# Altium footprint library PCB_library.PcbLib: 36 footprints (part 2 of 3)
Each footprint in its own frame and in the unit in brackets; x right, y up, seen from the top. Pads: shape width x height; smd on the part's side, far side on the other; paste and mask are expansions set on the pad; w line width, h text height; cw(c..) or ccw(c..) is an arc to the next point about the centre after c.
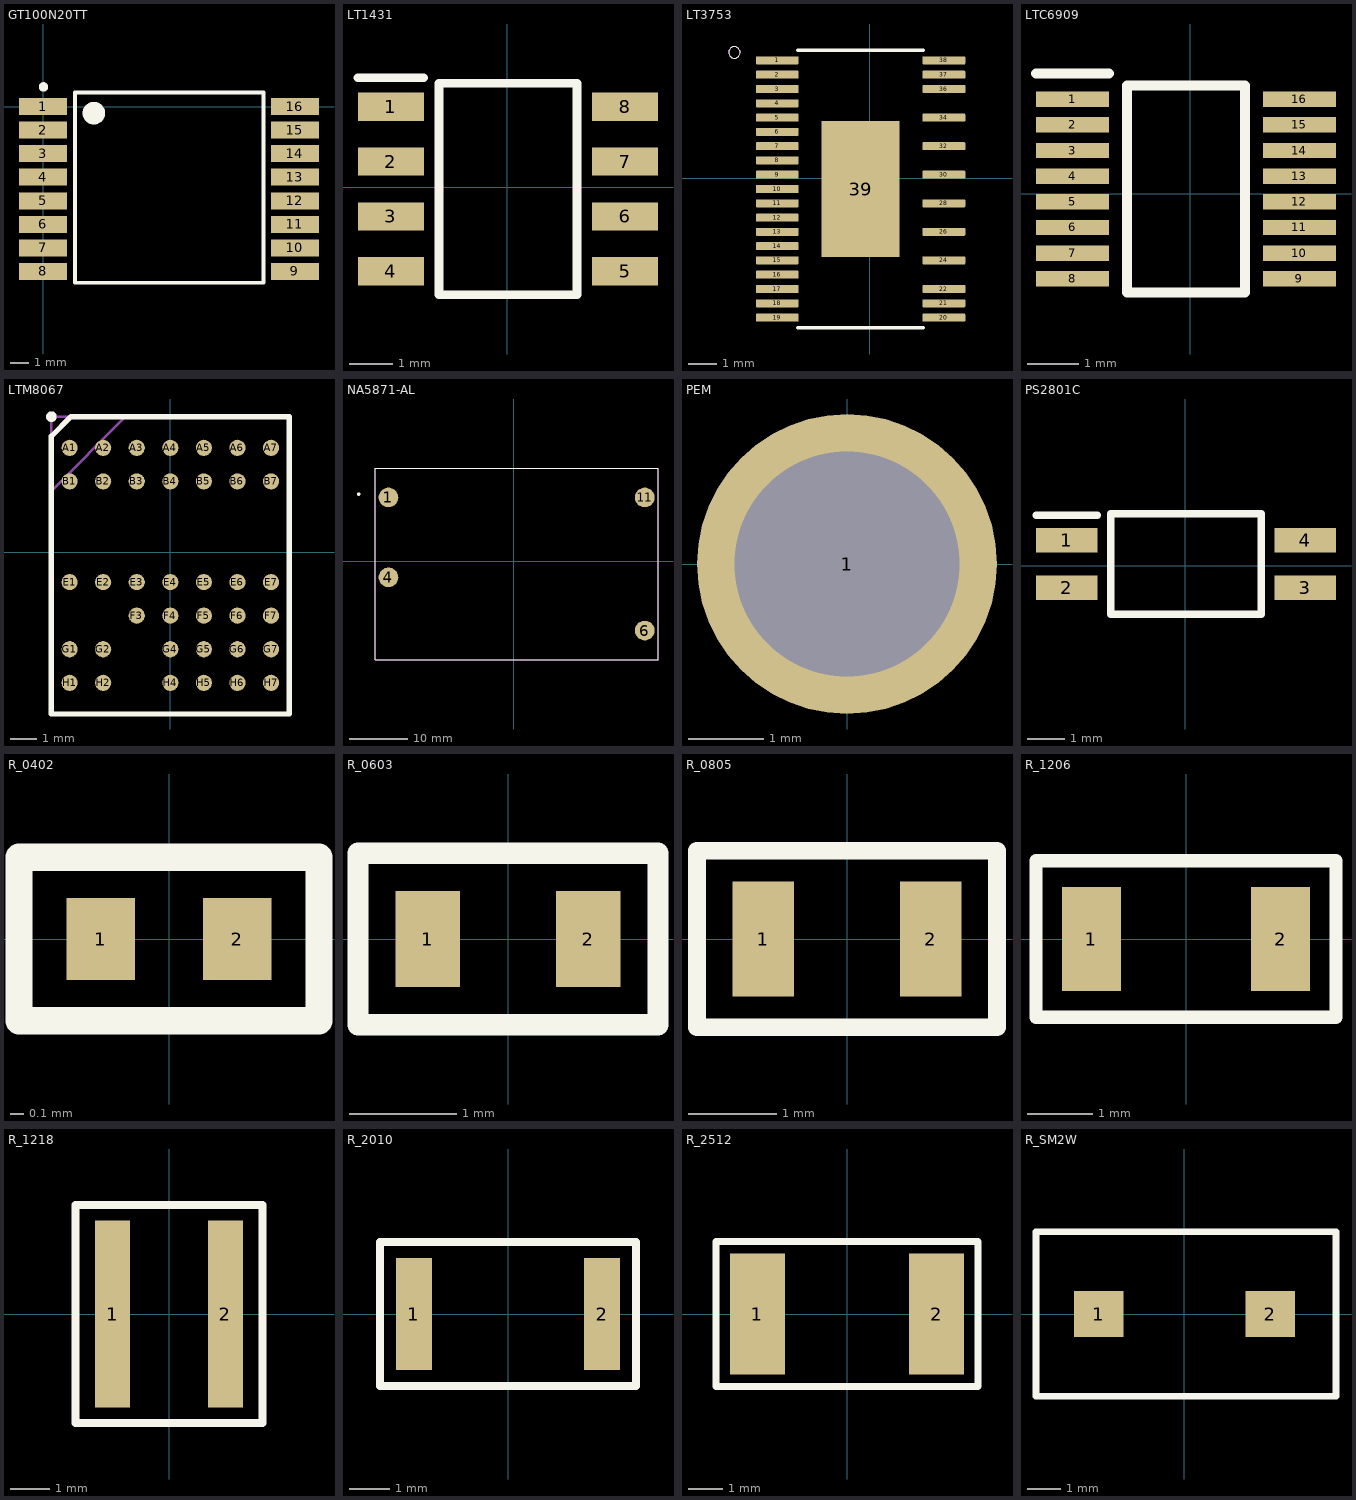
[diagram p1: the footprints below, top view; thin cyan lines are the x and y axes]

## GT100N20TT [mm]
pads (16):
  rect 2.55x0.9 smd: 1(0,0) 2(0,-1.25) 3(0,-2.5) 4(0,-3.75) 5(0,-5) 6(0,-6.25) 7(0,-7.5) 8(0,-8.75) 9(13.375,-8.75) 10(13.375,-7.5) 11(13.375,-6.25) 12(13.375,-5) 13(13.375,-3.75) 14(13.375,-2.5) 15(13.375,-1.25) 16(13.375,0)
Top Overlay:
  circle w0.6: c2.7,-0.35 r0.3
  circle w0.25: c0.025,1.045 r0.125
  lines w0.2: 1.7,-9.35 1.7,0.75 11.7,0.75 11.7,-9.35 1.7,-9.35
3D body: height 2.35, standoff 1.14, extent 1.55,-9.35 11.85,0.75

## LT1431 [mm]
pads (8):
  rect 1.526x0.65 smd: 1(-2.692,1.863) 2(-2.692,0.593) 3(-2.692,-0.677) 4(-2.692,-1.947) 5(2.732,-1.947) 6(2.732,-0.677) 7(2.732,0.593) 8(2.732,1.863)
Top Overlay:
  lines w0.2: -3.455,2.538 -1.93,2.538 ; -1.58,-2.493 -1.58,2.409 1.62,2.409 1.62,-2.493 -1.58,-2.493
3D body "LT1431CS8#PBF.stp": height 1.75, standoff 0, extent -2.977,-2.493 3.017,2.409

## LT3753 [mm]
pads (32):
  rrect25% 1.5x0.28 smd mask+0.05: 1(-3.244,4.123) 2(-3.244,3.623) 3(-3.244,3.123) 4(-3.244,2.623) 5(-3.244,2.123) 6(-3.244,1.623) 7(-3.244,1.123) 8(-3.244,0.623) 9(-3.244,0.123) 10(-3.244,-0.377) 11(-3.244,-0.877) 12(-3.244,-1.377) 13(-3.244,-1.877) 14(-3.244,-2.377) 15(-3.244,-2.877) 16(-3.244,-3.377) 17(-3.244,-3.877) 18(-3.244,-4.377) 19(-3.244,-4.877) 20(2.586,-4.877) 21(2.586,-4.377) 22(2.586,-3.877) 24(2.586,-2.877) 26(2.586,-1.877) 28(2.586,-0.877) 30(2.586,0.123) 32(2.586,1.123) 34(2.586,2.123) 36(2.586,3.123) 37(2.586,3.623) 38(2.586,4.123)
  rect 2.74x4.75 smd paste-3: 39(-0.329,-0.377)
Top Overlay:
  circle w0: c-4.744,4.403 r0.2
  lines w0.127: -2.529,-5.227 1.871,-5.227 ; -2.529,4.473 1.871,4.473
Top Paste:
  region: 0.356,-1.575 -1.02,-1.575 -1.02,0.811 0.356,0.811
Mechanical 13:
  circle w0: c-4.744,4.403 r0.2

## LTC6909 [mm]
pads (16):
  rect 1.425x0.3 smd mask+0.05: 1(-2.29,1.84) 2(-2.29,1.34) 3(-2.29,0.84) 4(-2.29,0.34) 5(-2.29,-0.16) 6(-2.29,-0.66) 7(-2.29,-1.16) 8(-2.29,-1.66) 9(2.134,-1.66) 10(2.134,-1.16) 11(2.134,-0.66) 12(2.134,-0.16) 13(2.134,0.34) 14(2.134,0.84) 15(2.134,1.34) 16(2.134,1.84)
Top Overlay:
  lines w0.2: -3.003,2.34 -1.578,2.34 ; -1.228,-1.93 1.072,-1.93 1.072,2.11 -1.228,2.11 -1.228,-1.93
3D body "LTC6909HMS#PBF.stp": height 1.1, standoff 0, extent -2.528,-1.93 2.372,2.11

## LTM8067 [mm]
pads (38):
  round 0.612 smd: A1(-3.813,3.958) A2(-2.543,3.958) A3(-1.273,3.958) A4(-0.003,3.958) A5(1.267,3.958) A6(2.537,3.958) A7(3.807,3.958) B1(-3.813,2.688) B2(-2.543,2.688) B3(-1.273,2.688) B4(-0.003,2.688) B5(1.267,2.688) B6(2.537,2.688) B7(3.807,2.688) E1(-3.813,-1.122) E2(-2.543,-1.122) E3(-1.273,-1.122) E4(-0.003,-1.122) E5(1.267,-1.122) E6(2.537,-1.122) E7(3.807,-1.122) F3(-1.273,-2.392) F4(-0.003,-2.392) F5(1.267,-2.392) F6(2.537,-2.392) F7(3.807,-2.392) G1(-3.813,-3.662) G2(-2.543,-3.662) G4(-0.003,-3.662) G5(1.267,-3.662) G6(2.537,-3.662) G7(3.807,-3.662) H1(-3.813,-4.932) H2(-2.543,-4.932) H4(-0.003,-4.932) H5(1.267,-4.932) H6(2.537,-4.932) H7(3.807,-4.932)
Top Overlay:
  circle w0.2: c-4.503,5.138 r0.1
  lines w0.2: -4.503,-6.112 4.497,-6.112 4.497,5.138 -3.762,5.138 -4.503,4.397 -4.503,-6.112
Mechanical 13:
  lines w0.1: -4.503,2.325 -1.691,5.137 ; -4.503,-6.112 4.497,-6.112 4.497,5.138 -4.503,5.138 -4.503,-6.112
3D body "LTM8067EY#PBF.stp": height 5.13, standoff 0, extent -4.499,-6.113 4.493,5.139

## NA5871-AL [mm]
pads (4):
  round 3.38 smd: 1(-21.475,10.918) 4(-21.475,-2.792) 6(22.485,-11.932) 11(22.485,10.918)
Top Overlay:
  lines w0.1: -23.745,-16.907 -23.745,15.893 24.755,15.893 24.755,-16.907 -23.745,-16.907
  lines w0.4: -26.695,11.493 cw(c-26.595,11.493) -26.495,11.493 cw(c-26.595,11.493) -26.695,11.493
Mechanical 13:
  lines w0.2: -23.745,-16.907 -23.745,15.893 24.755,15.893 24.755,-16.907 -23.745,-16.907
3D body "NA5871-ALB.stp": height 13.6, standoff 0, extent -23.745,-16.907 24.755,15.893

## PEM [mm]
pads (1):
  round 4 hole 3: 1(0,0)

## PS2801C [mm]
pads (4):
  rect 1.65x0.65 smd: 1(-3.178,0.677) 2(-3.178,-0.593) 3(3.222,-0.593) 4(3.222,0.677)
Top Overlay:
  lines w0.2: -4.003,1.352 -2.353,1.352 ; -2.003,-1.308 2.047,-1.308 2.047,1.392 -2.003,1.392 -2.003,-1.308
3D body "PS2801C-1-F3-A.stp": height 0, standoff 0, extent 0.022,0.042 0.022,0.042

## R_0402 [mm]
pads (2):
  rect 0.5x0.6 smd: 1(-0.5,0) 2(0.5,0)
Top Overlay:
  lines w0.2: -1.1,-0.6 -1.1,0.6 1.1,0.6 1.1,-0.6 -1.1,-0.6

## R_0603 [mm]
pads (2):
  rect 0.6x0.9 smd: 1(-0.75,0) 2(0.75,0)
Top Overlay:
  lines w0.2: -1.4,-0.8 1.4,-0.8 1.4,0.8 -1.4,0.8 -1.4,-0.8

## R_0805 [mm]
pads (2):
  rect 0.7x1.3 smd: 1(-0.95,0) 2(0.95,0)
Top Overlay:
  lines w0.2: -1.7,-1 -1.7,1 1.7,1 1.7,-1 -1.7,-1

## R_1206 [mm]
pads (2):
  rect 0.9x1.6 smd: 1(-1.45,0) 2(1.45,0)
Top Overlay:
  lines w0.2: -2.3,-1.2 -2.3,1.2 2.3,1.2 2.3,-1.2 -2.3,-1.2

## R_1218 [mm]
pads (2):
  rect 0.9x4.8 smd: 1(-1.45,0) 2(1.45,0)
Top Overlay:
  lines w0.2: -2.4,-2.8 -2.4,-0.4 -2.4,2.8 2.4,2.8 2.4,-2.8 -2.4,-2.8

## R_2010 [mm]
pads (2):
  rect 0.9x2.8 smd: 1(-2.35,0) 2(2.35,0)
Top Overlay:
  lines w0.2: -3.2,-1.8 3.2,-1.8 3.2,1.8 -3.2,1.8 -3.2,-0.7 -3.2,-1.8

## R_2512 [mm]
pads (2):
  rect 1.6x3.5 smd: 1(-2.6,0) 2(2.6,0)
Top Overlay:
  lines w0.2: -3.8,-2.1 3.8,-2.1 3.8,2.1 -3.8,2.1 -3.8,0.35 -3.8,-2.1

## R_SM2W [mm]
pads (2):
  rect 1.5x1.4 smd: 1(-2.6,0) 2(2.6,0)
Top Overlay:
  lines w0.2: -4.5,-2.5 -4.5,-0.65 -4.5,2.5 4.6,2.5 4.6,-2.5 -4.5,-2.5